# EAGLE library part DSPC01 (library DSPC01)
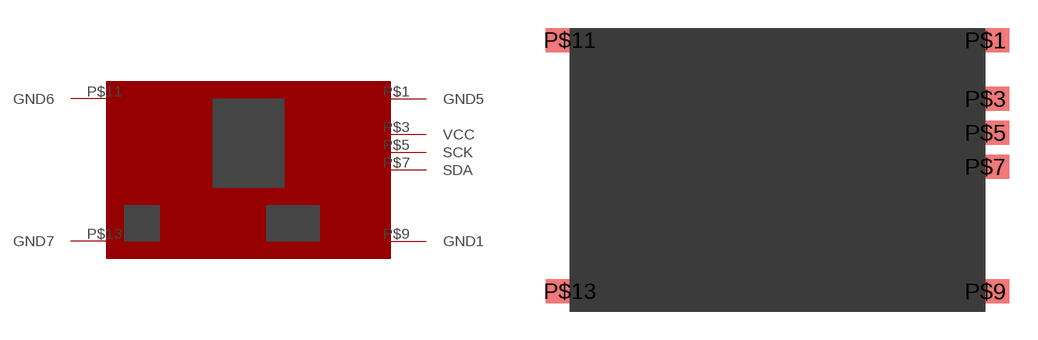
[diagram p0: symbol with the pads of DSPC01; footprint DSPC01]

Designator prefix -

## DSPC01  [DSPC01]
P$1  GND5
P$3  VCC
P$5  SCK
P$7  SDA
P$9  GND1
P$11  GND6
P$13  GND7

## Footprint DSPC01 (pad centres in mm)
DSPC01
smd 2.54 x 1.27: P$1 22,14.365; P$3 22,11.265; P$5 22,9.465; P$7 22,7.665; P$9 22,1.065; P$11 0,14.365; P$13 0,1.065